# Altium schematic symbol library MAX9759.SchLib: 1 symbol
Pins are listed as number, name and electrical type; pins without a type are passive.

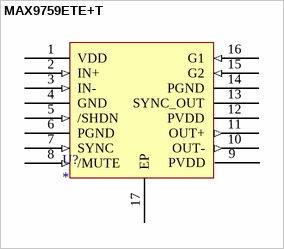
[diagram p0: symbol MAX9759ETE+T ]

## MAX9759ETE+T 
designator U?
footprint MAX9759ETE+T
pins: 1 VDD (power), 2 IN+ (in), 3 IN- (in), 4 GND (power), 5 /SHDN (in), 6 PGND (power), 7 SYNC (in), 8 /MUTE (in), 9 PVDD (power), 10 OUT- (out), 11 OUT+ (out), 12 PVDD (power), 13 SYNC_OUT, 14 PGND (power), 15 G2 (in), 16 G1 (in), 17 EP (power)